# Altium footprint library Component.PcbLib: 46 footprints (part 2 of 3)
Each footprint in its own frame and in the unit in brackets; x right, y up, seen from the top. Pads: shape width x height; smd on the part's side, far side on the other; paste and mask are expansions set on the pad; w line width, h text height; cw(c..) or ccw(c..) is an arc to the next point about the centre after c.
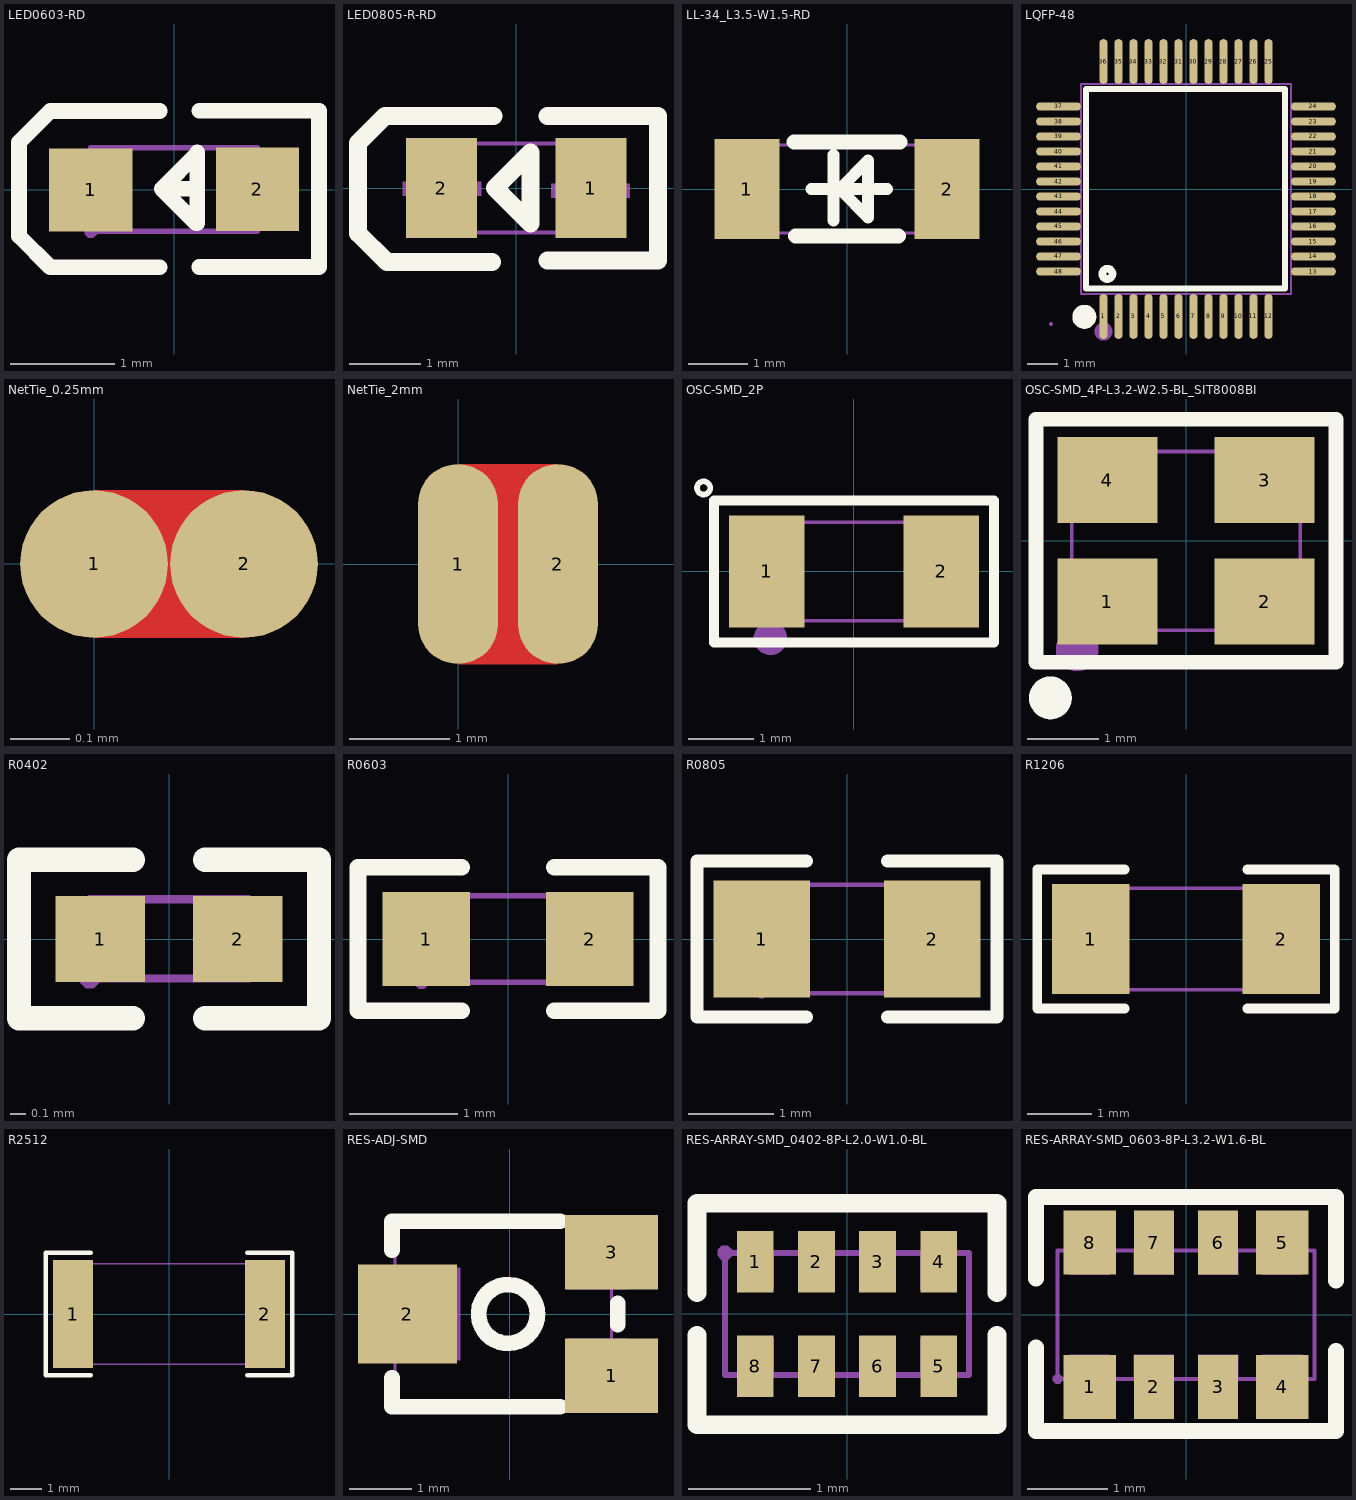
[diagram p1: the footprints below, top view; thin cyan lines are the x and y axes]

## LED0603-RD [mm]
pads (2):
  rect 0.8x0.8 smd paste+0 mask+0.051: 1(-0.799,-0.003) 2(0.799,0.003)
Top Overlay:
  lines w0.15: -0.14,-0.746 -1.19,-0.746 -1.49,-0.446 -1.49,-0.346 -1.49,0.354 -1.49,0.454 -1.19,0.754 -0.14,0.754 ; 0.22,0.007 -0.12,0.007 ; 0.24,-0.744 1.39,-0.744 ; 0.24,0.757 1.39,0.757 1.39,-0.723 ; -0.12,0.007 0.22,0.347 0.22,0.357 0.22,-0.324 0.21,-0.324 -0.12,0.007
Mechanical 6:
  region: 0.529,0.068 1.069,0.068 1.069,-0.062 0.529,-0.062
  region: 0.735,-0.267 0.735,0.273 0.865,0.273 0.865,-0.267
  region: -1.07,0.062 -0.53,0.062 -0.53,-0.068 -1.07,-0.068
Mechanical 15:
  region: 0.5,-0.396 0.5,0.404 0.8,0.404 0.8,-0.396
  region: -0.8,-0.403 -0.8,0.397 -0.5,0.397 -0.5,-0.403
  region: -0.739,-0.403 -0.739,-0.379 -0.775,-0.344 -0.824,-0.344 -0.859,-0.379 -0.859,-0.403 -0.859,-0.428 -0.824,-0.463 -0.775,-0.463 -0.739,-0.428
  lines w0.051: -0.8,-0.4 0.8,-0.4 0.8,0.4 -0.8,0.4 -0.8,-0.4

## LED0805-R-RD [mm]
pads (2):
  rect 1x1.4 smd paste+0 mask+0.051: 1(1.05,0) 2(-1.05,0)
Top Overlay:
  lines w0.254: -0.344,-1.043 -1.817,-1.043 -2.224,-0.636 -2.224,0.634 -1.843,1.015 -0.319,1.015 ; 0.443,-1.017 1.993,-1.017 1.993,1.015 0.443,1.015 ; -0.3,0 -0.2,0.1 0.2,0.5 0.2,-0.5 -0.2,-0.1 -0.3,0
Mechanical 6:
  region: 0.941,-0.556 0.941,0.544 1.141,0.544 1.141,-0.556
  region: 0.494,0.06 1.594,0.06 1.594,-0.14 0.494,-0.14
  region: -0.494,-0.109 -1.594,-0.109 -1.594,0.091 -0.494,0.091
Mechanical 15:
  region: 1.06,0.625 1.06,0.65 1.025,0.685 0.975,0.685 0.94,0.65 0.94,0.625 0.94,0.6 0.975,0.565 1.025,0.565 1.06,0.6
  region: 1,-0.625 0.6,-0.625 0.6,0.625 1,0.625
  region: -0.6,-0.625 -1,-0.625 -1,0.625 -0.6,0.625
  lines w0.051: -1,-0.625 -1,0.625 1,0.625 1,-0.625 -1,-0.625

## LL-34_L3.5-W1.5-RD [mm]
pads (2):
  rect 1.1x1.7 smd: 1(-1.7,0) 2(1.7,0)
Top Overlay:
  lines w0.2: -0.61,0 0.686,0 ; -0.229,-0.533 -0.229,0.584 ; -0.127,0 0.356,0.483 0.356,-0.483 -0.102,-0.025
  lines w0.254: -0.9,0.8 0.9,0.8 ; -0.878,-0.8 0.878,-0.8
Mechanical 6:
  region: 1.604,-0.335 1.604,0.326 1.782,0.326 1.782,-0.335
  region: 2.035,-0.096 1.374,-0.096 1.374,0.082 2.035,0.082
  region: -1.365,-0.096 -2.026,-0.096 -2.026,0.082 -1.365,0.082
Mechanical 15:
  region: -1.686,-0.75 -1.686,-0.725 -1.721,-0.69 -1.771,-0.69 -1.806,-0.725 -1.806,-0.75 -1.806,-0.775 -1.771,-0.81 -1.721,-0.81 -1.686,-0.775 -1.686,-0.75
  region: 1.754,-0.75 1.354,-0.75 1.354,0.75 1.754,0.75
  region: -1.346,-0.75 -1.746,-0.75 -1.746,0.75 -1.346,0.75
  lines w0.051: -1.746,-0.75 -1.746,0.75 1.754,0.75 1.754,-0.75 -1.746,-0.75

## LQFP-48 [mm] "L7.0-W7.0-P0.50-LS9.0-BL"
pads (48):
  oval 0.27x1.5 smd paste+0 mask+0.05: 1(-2.75,-4.25) 2(-2.25,-4.25) 3(-1.75,-4.25) 4(-1.25,-4.25) 5(-0.75,-4.25) 6(-0.25,-4.25) 7(0.25,-4.25) 8(0.75,-4.25) 9(1.25,-4.25) 10(1.75,-4.25) 11(2.25,-4.25) 12(2.75,-4.25) 25(2.75,4.25) 26(2.25,4.25) 27(1.75,4.25) 28(1.25,4.25) 29(0.75,4.25) 30(0.25,4.25) 31(-0.25,4.25) 32(-0.75,4.25) 33(-1.25,4.25) 34(-1.75,4.25) 35(-2.25,4.25) 36(-2.75,4.25)
  oval 1.5x0.27 smd paste+0 mask+0.05: 13(4.25,-2.75) 14(4.25,-2.25) 15(4.25,-1.75) 16(4.25,-1.25) 17(4.25,-0.75) 18(4.25,-0.25) 19(4.25,0.25) 20(4.25,0.75) 21(4.25,1.25) 22(4.25,1.75) 23(4.25,2.25) 24(4.25,2.75) 37(-4.25,2.75) 38(-4.25,2.25) 39(-4.25,1.75) 40(-4.25,1.25) 41(-4.25,0.75) 42(-4.25,0.25) 43(-4.25,-0.25) 44(-4.25,-0.75) 45(-4.25,-1.25) 46(-4.25,-1.75) 47(-4.25,-2.25) 48(-4.25,-2.75)
Top Overlay:
  circle w0.254: c-2.62,-2.83 r0.17
  lines w0.2: -2.896,3.34 3.302,3.34 3.302,-3.315 -3.327,-3.315 -3.327,3.34 -2.565,3.34
  lines w0.4: -3.39,-4.06 ccw(c-3.389,-4.26) -3.387,-4.06
Mechanical 6:
  circle w0.3: c-2.75,-4.75 r0.15
Mechanical 15:
  drawing of 101 lines, arcs and shapes, not listed

## NetTie_0.25mm [mm] "Net tie, 0.25mm"
pads (2):
  round 0.25 smd paste-2 mask+0.102: 1(0,0) 2(0.254,0)
Top Layer:
  region: 0,0.125 0.254,0.125 0.254,-0.125 0,-0.125

## NetTie_2mm [mm] "Net tie, 2mm round"
pads (2):
  oval 0.8x2 smd paste-2 mask+0.102: 1(0,0) 2(1,0)
Top Layer:
  region: 0,1 1,1 1,-1 0,-1

## OSC-SMD_2P [mm] "L3.2-W1.5"
pads (2):
  rect 1.15x1.7 smd paste+0 mask+0.051: 1(-1.325,0) 2(1.325,0)
Top Overlay:
  circle w0.085: c-2.286,1.27 r0.1
  lines w0.152: -2.129,-1.079 2.129,-1.079 2.129,1.079 -2.129,1.079 -2.129,-1.079
Mechanical 6:
  circle w0.254: c-1.27,-1.016 r0.127
Mechanical 15:
  region: 0.85,-0.75 0.85,0.75 1.6,0.75 1.6,-0.75
  region: -0.85,-0.75 -0.85,0.75 -1.6,0.75 -1.6,-0.75
  region: -1.6,-0.81 -1.575,-0.81 -1.54,-0.775 -1.54,-0.725 -1.575,-0.69 -1.6,-0.69 -1.625,-0.69 -1.66,-0.725 -1.66,-0.775 -1.625,-0.81 -1.6,-0.81
  lines w0.051: -1.6,-0.75 1.6,-0.75 1.6,0.75 -1.6,0.75 -1.6,-0.75

## OSC-SMD_4P-L3.2-W2.5-BL_SIT8008BI [mm]
pads (4):
  rect 1.4x1.2 smd: 1(-1.1,-0.85) 2(1.1,-0.85) 3(1.1,0.85) 4(-1.1,0.85)
Top Overlay:
  lines w0.203: -2.1,-1.7 2.1,-1.7 2.1,1.7 -2.1,1.7 -2.1,-1.7
  lines w0.3: -1.9,-2.05 ccw(c-1.899,-2.2) -1.897,-2.05
Mechanical 6:
  circle w0.3: c-1.524,-1.524 r0.15
Mechanical 15:
  region: -1.54,-1.25 -1.54,-1.225 -1.575,-1.19 -1.625,-1.19 -1.66,-1.225 -1.66,-1.25 -1.66,-1.275 -1.625,-1.31 -1.575,-1.31 -1.54,-1.275
  region: 0.6,1.15 1.5,1.15 1.5,0.55 0.6,0.55
  region: -1.5,1.15 -0.6,1.15 -0.6,0.55 -1.5,0.55
  region: 0.6,-0.55 1.5,-0.55 1.5,-1.15 0.6,-1.15
  region: -1.5,-0.55 -0.6,-0.55 -0.6,-1.15 -1.5,-1.15
  lines w0.051: -1.6,-1.25 1.6,-1.25 1.6,1.25 -1.6,1.25 -1.6,-1.25

## R0402 [mm]
pads (2):
  rect 0.566x0.54 smd mask+0.051: 1(-0.433,0) 2(0.433,0)
Top Overlay:
  lines w0.152: -0.226,-0.499 -0.944,-0.499 -0.944,0.499 -0.226,0.499 ; 0.226,-0.499 0.944,-0.499 0.944,0.499 0.226,0.499
Top Paste:
  region: -0.135,-0.23 -0.135,0.23 -0.175,0.27 -0.676,0.27 -0.716,0.23 -0.716,-0.23 -0.676,-0.27 -0.175,-0.27
  region: 0.135,-0.23 0.135,0.23 0.175,0.27 0.676,0.27 0.716,0.23 0.716,-0.23 0.676,-0.27 0.175,-0.27
Mechanical 15:
  region: -0.249,0.25 -0.249,-0.25 -0.499,-0.25 -0.499,0.25
  region: 0.251,-0.25 0.251,0.25 0.501,0.25 0.501,-0.25
  region: -0.44,-0.25 -0.44,-0.225 -0.475,-0.19 -0.525,-0.19 -0.56,-0.225 -0.56,-0.25 -0.56,-0.275 -0.525,-0.31 -0.475,-0.31 -0.44,-0.275
  lines w0.051: -0.5,-0.25 0.5,-0.25 0.5,0.25 -0.5,0.25 -0.5,-0.25
3D body "R0402.step": height 0.5, standoff 0, extent -0.5,-0.246 0.5,0.254

## R0603 [mm]
pads (2):
  rect 0.806x0.864 smd mask+0.051: 1(-0.753,0) 2(0.753,0)
Top Overlay:
  lines w0.152: -0.426,-0.661 -1.385,-0.661 -1.385,0.661 -0.426,0.661 ; 0.426,-0.661 1.385,-0.661 1.385,0.661 0.426,0.661
Top Paste:
  region: 1.195,0.45 0.395,0.45 0.345,0.4 0.345,0.172 0.715,0.172 0.715,-0.158 0.345,-0.158 0.345,-0.4 0.395,-0.45 1.195,-0.45 1.245,-0.4 1.245,0.4
  region: -0.355,0.4 -0.355,0.172 -0.735,0.172 -0.735,-0.158 -0.355,-0.158 -0.355,-0.4 -0.405,-0.45 -1.195,-0.45 -1.245,-0.4 -1.245,0.4 -1.195,0.45 -0.405,0.45
Mechanical 15:
  region: -0.74,-0.4 -0.74,-0.375 -0.775,-0.34 -0.825,-0.34 -0.86,-0.375 -0.86,-0.4 -0.86,-0.425 -0.825,-0.46 -0.775,-0.46 -0.74,-0.425
  region: -0.8,-0.4 -0.8,0.4 -0.5,0.4 -0.5,-0.4
  region: 0.8,-0.4 0.8,0.4 0.5,0.4 0.5,-0.4
  lines w0.051: -0.8,-0.4 -0.8,0.4 0.8,0.4 0.8,-0.4 -0.8,-0.4
3D body "R0603.step": height 0.45, standoff 0, extent -0.839,-0.398 0.781,0.412

## R0805 [mm]
pads (2):
  rect 1.133x1.377 smd mask+0.051: 1(-1,0) 2(1,0)
Top Overlay:
  lines w0.152: -0.476,-0.917 -1.761,-0.917 -1.761,0.917 -0.476,0.917 ; 0.476,-0.917 1.761,-0.917 1.761,0.917 0.476,0.917
Top Paste:
  region: -1.7,-0.64 -1.7,0.64 -1.65,0.69 -0.5,0.69 -0.45,0.64 -0.445,0.23 -0.895,0.23 -0.895,-0.22 -0.455,-0.22 -0.45,-0.64 -0.5,-0.69 -1.65,-0.69
  region: 0.45,-0.64 0.45,-0.22 0.895,-0.22 0.895,0.23 0.455,0.23 0.45,0.64 0.5,0.69 1.65,0.69 1.7,0.64 1.7,-0.64 1.65,-0.69 0.5,-0.69
Mechanical 15:
  region: -0.94,-0.638 -0.94,-0.613 -0.975,-0.578 -1.025,-0.578 -1.06,-0.613 -1.06,-0.638 -1.06,-0.662 -1.025,-0.698 -0.975,-0.698 -0.94,-0.662
  region: -1,-0.637 -1,0.637 -0.6,0.637 -0.6,-0.637
  region: 1,-0.637 1,0.637 0.6,0.637 0.6,-0.637
  lines w0.051: -1,-0.637 -1,0.637 1,0.637 1,-0.637 -1,-0.637
3D body "R0805.step": height 0.61, standoff 0, extent -0.992,-0.661 1.008,0.64

## R1206 [mm]
pads (2):
  rect 1.208x1.701 smd paste-100 mask+0.051: 1(-1.479,0) 2(1.479,0)
Top Overlay:
  lines w0.152: -0.951,-1.079 -2.311,-1.079 -2.311,1.079 -0.951,1.079 ; 0.951,-1.079 2.311,-1.079 2.311,1.079 0.951,1.079
Top Paste:
  region: 0.875,-0.75 0.875,-0.389 0.975,-0.289 1.186,-0.289 1.286,-0.189 1.286,0.189 1.186,0.289 0.975,0.289 0.875,0.389 0.875,0.75 0.975,0.85 1.983,0.85 2.083,0.75 2.083,-0.75 1.983,-0.85 0.975,-0.85
  region: -0.875,-0.75 -0.875,-0.389 -0.975,-0.289 -1.186,-0.289 -1.286,-0.189 -1.286,0.189 -1.186,0.289 -0.975,0.289 -0.875,0.389 -0.875,0.75 -0.975,0.85 -1.983,0.85 -2.083,0.75 -2.083,-0.75 -1.983,-0.85 -0.975,-0.85
Mechanical 15:
  region: -1.49,-0.787 -1.49,-0.763 -1.525,-0.727 -1.575,-0.727 -1.61,-0.763 -1.61,-0.787 -1.61,-0.812 -1.575,-0.847 -1.525,-0.847 -1.49,-0.812
  region: -1.55,-0.788 -1.55,0.788 -1.1,0.788 -1.1,-0.788
  region: 1.55,-0.788 1.55,0.788 1.1,0.788 1.1,-0.788
  lines w0.051: -1.55,-0.788 -1.55,0.788 1.55,0.788 1.55,-0.788 -1.55,-0.788
3D body "3D_PCB1_2023-05-15.step": height 0.56, standoff 0, extent -1.575,-0.787 1.625,0.814

## R2512 [mm]
pads (2):
  rect 1.283x3.456 smd paste-100 mask+0.051: 1(-3.066,0) 2(3.066,0)
Top Overlay:
  lines w0.152: -2.501,-1.957 -3.936,-1.957 -3.936,1.957 -2.501,1.957 ; 2.501,-1.957 3.936,-1.957 3.936,1.957 2.501,1.957
Top Paste:
  region: -2.425,-1.628 -2.425,-0.688 -2.525,-0.588 -2.761,-0.588 -2.861,-0.488 -2.861,0.488 -2.761,0.588 -2.525,0.588 -2.425,0.688 -2.425,1.628 -2.525,1.728 -3.608,1.728 -3.708,1.628 -3.708,-1.628 -3.608,-1.728 -2.525,-1.728
  region: 2.425,-1.628 2.425,-0.688 2.525,-0.588 2.761,-0.588 2.861,-0.488 2.861,0.488 2.761,0.588 2.525,0.588 2.425,0.688 2.425,1.628 2.525,1.728 3.608,1.728 3.708,1.628 3.708,-1.628 3.608,-1.728 2.525,-1.728
Mechanical 15:
  region: 2.55,-1.6 2.55,1.6 3.15,1.6 3.15,-1.6
  region: -3.15,-1.6 -3.15,1.6 -2.55,1.6 -2.55,-1.6
  region: -3.115,-1.6 -3.115,-1.575 -3.15,-1.54 -3.2,-1.54 -3.235,-1.575 -3.235,-1.6 -3.235,-1.625 -3.2,-1.66 -3.15,-1.66 -3.115,-1.625
  lines w0.051: -3.15,-1.6 3.15,-1.6 3.15,1.6 -3.15,1.6 -3.15,-1.6
3D body "3D_PCB1_2023-04-05.step": height 0.61, standoff 0, extent -3.15,-1.6 3.15,1.6

## RES-ADJ-SMD [mm] "VG039NCH"
pads (3):
  rect 1.5x1.2 smd mask+0.051: 1(1.65,-1) 3(1.65,1)
  rect 1.6x1.6 smd mask+0.051: 2(-1.65,0)
Top Overlay:
  circle w0.254: c-0.025,0 r0.475
  lines w0.254: -0.1,1.5 -1.9,1.5 ; 0.819,-1.5 -0.1,-1.5 -1.9,-1.5 ; 0.819,1.5 -1.9,1.5 ; 1.75,-0.169 1.75,0.169 ; -1.9,-1.5 -1.9,-1.031 ; -1.9,-1.5 -1.9,-1.031 ; -1.9,-1.5 -1.9,-1.031 ; -1.9,1.031 -1.9,1.5 ; -1.9,1.031 -1.9,1.5 ; -1.9,1.031 -1.9,1.5
Mechanical 6:
  circle w0.2: c2.1,-1.2 r0.1
Mechanical 15:
  region: 1.959,-1.5 1.959,-1.475 1.924,-1.44 1.874,-1.44 1.839,-1.475 1.839,-1.5 1.839,-1.525 1.874,-1.56 1.924,-1.56 1.959,-1.525
  region: 1.899,1.351 1.899,0.401 0.949,0.401 0.949,1.351
  region: 1.899,-0.401 1.899,-1.351 0.949,-1.351 0.949,-0.401
  region: -0.8,0.75 -0.8,-0.75 -1.85,-0.75 -1.85,0.75
  lines w0.051: -1.85,-1.5 1.65,-1.5 1.65,0 1.65,1.5 -1.85,1.5 -1.85,-1.5
3D body "3D_PCB1_2023-02-222 (1).step": height 1.46, standoff 0, extent -2.053,-1.524 2.053,1.526

## RES-ARRAY-SMD_0402-8P-L2.0-W1.0-BL [mm]
pads (8):
  rect 0.3x0.505 smd: 1(-0.75,0.427) 2(-0.25,0.427) 3(0.25,0.427) 4(0.75,0.427) 5(0.75,-0.427) 6(0.25,-0.427) 7(-0.25,-0.427) 8(-0.75,-0.427)
Top Overlay:
  lines w0.152: -1.229,-0.175 -1.229,-0.909 1.229,-0.909 1.229,-0.175 ; -1.229,0.175 -1.229,0.909 1.229,0.909 1.229,0.175
Mechanical 15:
  region: 0.6,-0.5 0.6,-0.2 0.9,-0.2 0.9,-0.5
  region: 0.1,-0.5 0.1,-0.2 0.4,-0.2 0.4,-0.5
  region: -0.4,-0.5 -0.4,-0.2 -0.1,-0.2 -0.1,-0.5
  region: -0.9,-0.5 -0.9,-0.2 -0.6,-0.2 -0.6,-0.5
  region: 0.6,0.5 0.6,0.2 0.9,0.2 0.9,0.5
  region: 0.1,0.5 0.1,0.2 0.4,0.2 0.4,0.5
  region: -0.4,0.5 -0.4,0.2 -0.1,0.2 -0.1,0.5
  region: -0.9,0.5 -0.9,0.2 -0.6,0.2 -0.6,0.5
  region: -0.94,0.5 -0.94,0.525 -0.975,0.56 -1.025,0.56 -1.06,0.525 -1.06,0.5 -1.06,0.475 -1.025,0.44 -0.975,0.44 -0.94,0.475
  lines w0.051: -1,-0.5 1,-0.5 1,0.5 -1,0.5 -1,-0.5

## RES-ARRAY-SMD_0603-8P-L3.2-W1.6-BL [mm]
pads (8):
  rect 0.65x0.8 smd: 1(-1.2,-0.9) 4(1.2,-0.9) 5(1.2,0.9) 8(-1.2,0.9)
  rect 0.5x0.8 smd: 2(-0.4,-0.9) 3(0.4,-0.9) 6(0.4,0.9) 7(-0.4,0.9)
Top Overlay:
  lines w0.2: -1.87,-0.41 -1.87,-1.45 1.87,-1.45 1.87,-0.45 ; -1.87,0.45 -1.87,1.47 1.87,1.47 1.87,0.43
Mechanical 15:
  region: 0.95,0.5 0.95,0.8 1.45,0.8 1.45,0.5
  region: -0.65,0.5 -0.65,0.8 -0.15,0.8 -0.15,0.5
  region: 0.95,-0.8 0.95,-0.5 1.45,-0.5 1.45,-0.8
  region: 0.15,0.5 0.15,0.8 0.65,0.8 0.65,0.5
  region: 0.15,-0.8 0.15,-0.5 0.65,-0.5 0.65,-0.8
  region: -0.65,-0.8 -0.65,-0.5 -0.15,-0.5 -0.15,-0.8
  region: -1.45,0.5 -1.45,0.8 -0.95,0.8 -0.95,0.5
  region: -1.45,-0.8 -1.45,-0.5 -0.95,-0.5 -0.95,-0.8
  region: -1.54,-0.8 -1.54,-0.775 -1.575,-0.74 -1.625,-0.74 -1.66,-0.775 -1.66,-0.8 -1.66,-0.825 -1.625,-0.86 -1.575,-0.86 -1.54,-0.825
  lines w0.051: -1.6,-0.8 1.6,-0.8 1.6,0.8 -1.6,0.8 -1.6,-0.8